# Altium schematic symbol library ASMT-QWBC-NJK0E.SchLib: 1 symbol
Pins are listed as number, name and electrical type; pins without a type are passive.

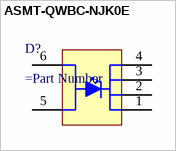
[diagram p0: symbol ASMT-QWBC-NJK0E]

## ASMT-QWBC-NJK0E
designator D?
=Description
pins: 1 (oe), 2 (oe), 3 (oe), 4 (oe), 5, 6